# EAGLE library part MAPLEBOARD (library NITWHIPS)
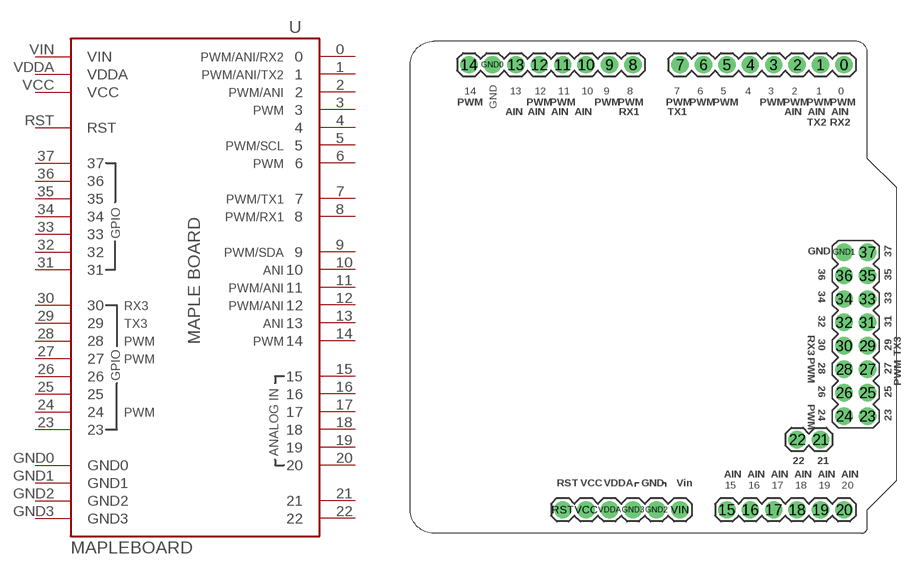
[diagram p1: symbol with the pads of MAPLEBOARD; footprint MAPLEBOARD]

Designator prefix -

## MAPLEBOARD  [MAPLEBOARD]
0  0
1  1
2  2
3  3
4  4
5  5
6  6
7  7
8  8
9  9
10  10
11  11
12  12
13  13
14  14
15  15
16  16
17  17
18  18
19  19
20  20
21  21
22  22
23  23
24  24
25  25
26  26
27  27
28  28
29  29
30  30
31  31
32  32
33  33
34  34
35  35
36  36
37  37
GND0  GND0
GND1  GND1
GND2  GND2
GND3  GND3
RST  RST
VCC  VCC
VDDA  VDDA
VIN  VIN

## Footprint MAPLEBOARD (pad centres in mm)
drill 1.016 pad 1.88 round: 0 46.99,50.8; 1 44.45,50.8; 2 41.91,50.8; 3 39.37,50.8; 4 36.83,50.8; 5 34.29,50.8; 6 31.75,50.8; 7 29.21,50.8; 8 24.13,50.8; 9 21.59,50.8; 10 19.05,50.8; 11 16.51,50.8; 12 13.97,50.8; 13 11.43,50.8; 14 6.35,50.8; 15 34.29,2.54; 16 36.83,2.54; 17 39.37,2.54; 18 41.91,2.54; 19 44.45,2.54; 20 46.99,2.54; 21 44.45,10.16; 22 41.91,10.16; 23 49.53,12.7; 24 46.99,12.7; 25 49.53,15.24; 26 46.99,15.24; 27 49.53,17.78; 28 46.99,17.78; 29 49.53,20.32; 30 46.99,20.32; 31 49.53,22.86; 32 46.99,22.86; 33 49.53,25.4; 34 46.99,25.4; 35 49.53,27.94; 36 46.99,27.94; 37 49.53,30.48; GND0 8.89,50.8; GND1 46.99,30.48; GND2 26.67,2.54; GND3 24.13,2.54; RST 16.51,2.54; VCC 19.05,2.54; VDDA 21.59,2.54; VIN 29.21,2.54